# Altium schematic symbol library Samtec-TSW-Series.SchLib: 1 symbol
Pins are listed as number, name and electrical type; pins without a type are passive.

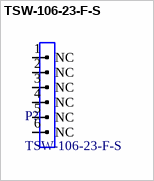
[diagram p0: symbol TSW-106-23-F-S]

## TSW-106-23-F-S
designator P?
Connector Header Through Hole 6 position 0.100" (2.54mm); Manufacturer 1: Samtec Inc.; Type: TSW-106-23-F-S; Manufacturer Part Number 1: TSW-106-23-F-S
footprint TSW-106-23-F-S (Connector Header Through Hole 6 position 0.100" (2.54mm))
footprint TSW-106-23-F-S_SIDEA (Connector Header Through Hole 6 position 0.100" (2.54mm))
footprint TSW-106-23-F-S_SIDEB (Connector Header Through Hole 6 position 0.100" (2.54mm))
pins: 1 NC, 2 NC, 3 NC, 4 NC, 5 NC, 6 NC